# Altium schematic symbol library Components - 14.05.23 - 19.49.SchLib: 1 symbol
Pins are listed as number, name and electrical type; pins without a type are passive.

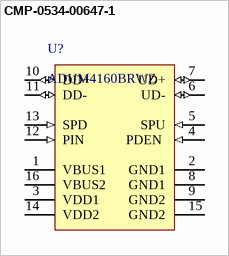
[diagram p0: symbol CMP-0534-00647-1]

## CMP-0534-00647-1
designator U?, comment ADUM4160BRWZ
Full/Low Speed USB Digital Isolator, 2 Channels, 5 kV rms, 3.1 to 5.5 V, -40 to 105 degC, 16-Pin SOIC (RW-16), RoHS, Tube; Manufacturer: Analog Devices; IDD@12 Mbps: 8 mA Max.; Number of Channels: 2; Data Rate: 12 Mbps Max.; CIN: 10 pF Typ.; Voltage Isolation: 5 kVrms; DatasheetVersion: Rev. D; VBUS: 3.1 to 5.5 V; PartNumber: ADUM4160BRWZ; Temperature Range: -40 to 105 degC; Mounting Technology: Surface Mount; PackageDescription: 16-Pin Small Outline Integrated Circuit, Body 10.3 x 7.5 mm, Pitch 1.27 mm; ComponentLink2URL: http://www.analog.com/static/imported-files/data_sheets/ADuM4160.pdf; PackageVersion: Mar-07; ComponentLink2Description: Datasheet; ComponentLink1URL: http://www.analog.com/en/index.html; Packing: Tube; ComponentLink3URL: http://www.analog.com/static/imported-files/packages/PKG_PDF/SOIC_WIDE%20(RW)/RW_16.pdf; RoHS: TRUE; ComponentLink3Description: Package Specification; ComponentLink1Description: Manufacturer URL
footprint RW-16_N (SOIC, 16-Leads, Body 10.3x7.5mm, Pitch 1.27mm, IPC Medium Density)
footprint RW-16_L (SOIC, 16-Leads, Body 10.3x7.5mm, Pitch 1.27mm, IPC High Density)
footprint RW-16_M (SOIC, 16-Leads, Body 10.3x7.5mm, Pitch 1.27mm, IPC Low Density)
pins: 1 VBUS1 (power) "Input Power Supply for Side 1. Where the isolator is powered by the USB bus voltage, 4.5 V to 5.5 V, connect VBUS1 to the USB power bus. Where the isolator is powered from a 3.3 V power supply, connect VBUS1 to VDD1 and to the external 3.3 V power supply. Bypass to GND1 is required.", 2 GND1 (power) "Ground 1. Ground reference for Isolator Side 1.", 3 VDD1 (power) "Power Supply for Side 1. Where the isolator is powered by the USB bus voltage, 4.5 V to 5.5 V, the VDDI pin should be used for a bypass capacitor to GND1. Signal lines that may require pull up, such as PDEN and SPU, should be tied to this pin. Where the isolator is powered from a 3.3 V power supply, connect VBUS1 to VDD1 and to the external 3.3 V power supply. Bypass to GND1 is required.", 4 PDEN  (in) "Pull-Down Enable. This pin is read when exiting reset. For standard operation, connect this pin to VDD1. When connected to GND1 while exiting from reset, the downstream pull-down resistors are disconnected, allowing buffer impedance measurements.", 5 SPU (in) "Speed Select Upstream Buffer. Active high logic input. Selects full speed slew rate, timing, and logic conventions when SPU is high, and low speed slew rate, timing, and logic conventions when SPU is tied low. This input must be set high via connection to VDD1 or set low via connection to GND1 and must match Pin 13.", 6 UD- (io) "Upstream D-.", 7 UD+ (io) "Upstream D+.", 8 GND1 (power) "Ground 1. Ground reference for Isolator Side 1.", 9 GND2 (power) "Ground 2. Ground reference for Isolator Side 2.", 10 DD+ (io) "Downstream D+.", 11 DD- (io) "Downstream D-.", 12 PIN (in) "Upstream Pull-Up Enable. PIN controls the power connection to the pull-up for the upstream port. It can be tied to VDD2 for operation on power-up, or tied to an external control signal for applications requiring delayed enumeration.", 13 SPD (in) "Speed Select Downstream Buffer. Active high logic input. Selects full speed slew rate, timing, and logic conventions when SPD is high, and low speed slew rate, timing, and logic conventions when SPD is tied low. This input must be set high via connection to VDD2 or low via connection to GND2, and must match Pin 5.", 14 VDD2 (power) "Power Supply for Side 2. Where the isolator is powered by the USB bus voltage, 4.5 V to 5.5 V, the VDD2 pin should be used for a bypass capacitor to GND2. Signal lines that may require pull-up, such as SPD, can be tied to this pin. Where the isolator is powered from a 3.3 V power supply, connect VBUS2 to VDD2 and to the external 3.3 V power supply. Bypass to GND2 is required.", 15 GND2 (power) "Ground 2. Ground reference for Isolator Side 2.", 16 VBUS2 (power) "Input Power Supply for Side 2. Where the isolator is powered by the USB bus voltage, 4.5 V to 5.5 V, connect VBUS2 to the USB power bus. Where the isolator is powered from a 3.3 V power supply, connect VBUS2 to VDD2 and to the external 3.3 V power supply. Bypass to GND2 is required."